# Altium integrated library PCB_UI.IntLib: 6 symbols
Pins are listed as number, name and electrical type; pins without a type are passive.

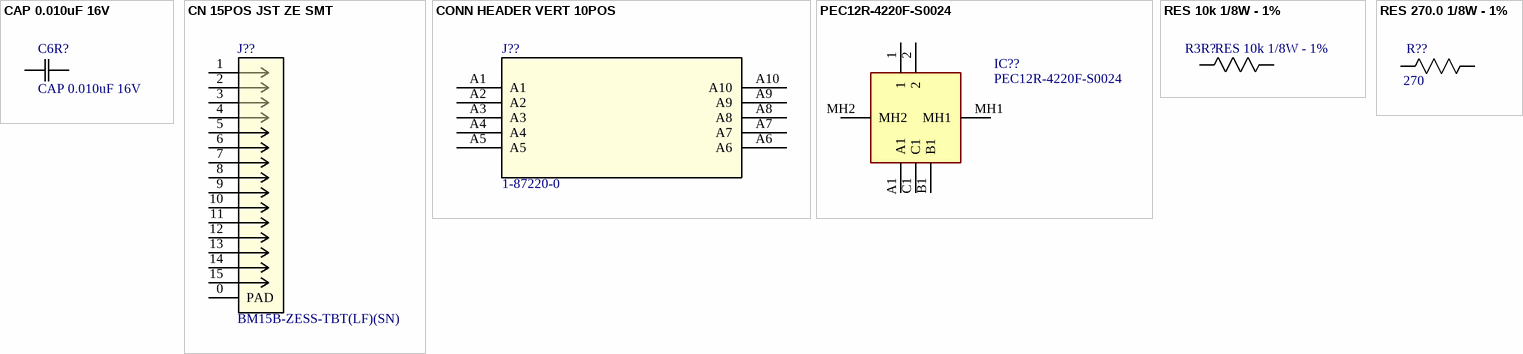
[diagram p0: symbols CAP 0.010uF 16V to RES 270.0 1/8W - 1%]

## CAP 0.010uF 16V
designator C6R?
Default Symbol for Capacitors; Temperature Coefficient: X5R; Tolerance: 10%; Value: 0.010uF; Rating: 16V; Operating Temperature: -55°C ~ 125°C; Part Number: CAP 0.010uF 16V
footprint 0805
footprint 0603
pins: 1 C1, 2 C2

## CN 15POS JST ZE SMT
designator J??, comment BM15B-ZESS-TBT(LF)(SN)
CONN HEADER VERT SMD 15POS ZE; Supplier 1: Digi-Key; Supplier Part Number 1: 455-4211-1-ND
footprint JST ZE SMT 15POS (15 POS HDR JST ZE)
pins: 0 PAD, 1, 2, 3, 4, 5, 6, 7, 8, 9, 10, 11, 12, 13, 14, 15

## CONN HEADER VERT 10POS
designator J??, comment 1-87220-0
No Description Available; Mfr_Name: TE Connectivity; Part Number: CONN HEADER VERT 10POS; Copyright: Copyright (C) 2021 Ultra Librarian. All rights reserved.; Manufacturer_Part_Number: 1-87220-0; RefDes: RefDes; Type: DEV; Supplier 1: Digi-Key; Supplier Part Number 1: 2057-PH1-10-UA-ND; Supplier URL 1: https://www.digikey.ca/en/products/detail/adam-tech/PH1-10-UA/9830653
footprint 1-87224-0_TYC
pins: A1, A2, A3, A4, A5, A6, A7, A8, A9, A10

## PEC12R-4220F-S0024
designator IC??
Integrated Circuit; Manufacturer_Name: Bourns; Datasheet Link: https://componentsearchengine.com/Datasheets/5/PEC12R-4220F-S0024.pdf; Height: 20mm; Manufacturer_Part_Number: PEC12R-4220F-S0024; Mouser Part Number: 652-PEC12R-4220F-S24; Mouser Price/Stock: https://www.mouser.co.uk/ProductDetail/Bourns/PEC12R-4220F-S0024?qs=Zq5ylnUbLm7u%2FuPQvUoR4Q%3D%3D; Arrow Part Number: PEC12R-4220F-S0024; Arrow Price/Stock: https://www.arrow.com/en/products/pec12r-4220f-s0024/bourns
footprint PEC12R4220FS0024
pins: 1, 2, A1, B1, C1, MH1, MH2

## RES 10k 1/8W - 1%
designator R3R?
Default Resistor Symbol; Value: 1; Power (Watts): 0.125W; Tolerance: 5%; Package: 0805; Part Number: RES 10k 1/8W - 1%
footprint 0805
footprint 0603
pins: 1 R1, 2 R2

## RES 270.0 1/8W - 1%
designator R??, comment 270
RES SMD 270 OHM 1% 1/8W 0603/0805; Power (Watts): 0.125W; Package: 0805; Value: 270; Tolerance: 1%
footprint 0805
footprint 0603 (Chip Resistor, 2-Leads, Body 1.60x0.80mm, IPC High Density)
pins: 1 R1, 2 R2